# Altium schematic symbol library MCP41HV51-502E.SchLib: 1 symbol
Pins are listed as number, name and electrical type; pins without a type are passive.

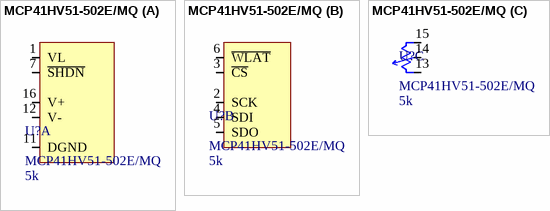
[diagram p0: symbol MCP41HV51-502E/MQ]

## MCP41HV51-502E/MQ
designator U?  value 5k
Digital Potentiometer 5k Ohm 1 Circuit 256 Taps SPI Interface 20-VQFN (5x5); Type: MCP41HV51-502E/MQ; Supplier 1: Digi-Key; Supplier Part Number 1: MCP41HV51-502E/MQ-ND
footprint QFN20_0.65_C (QFN, 20-Leads, Body 5.00x5.00mm, Pitch 0.65mm, Thermal Pad 3.25x3.25mm, IPC High Density)
part A pins: 1 VL, 7 ~{SHDN}, 11 DGND, 12 V-, 16 V+
part B pins: 2 SCK, 3 ~{CS}, 4 SDI, 5 SDO, 6 ~{WLAT}
part C pins: 13 P0B, 14 P0W, 15 P0A